# EAGLE library part 734-514 (library con-wago_3.81mm)
Serie 734, Federleiste mit geraden Einlötstiften / Series 734, Female connector with straight solder pins Polzahl / Pole No.: 14 Bemessungsspannung / Rated Voltage: 160 V Nennstrom / Nominal Current: 10 A Lötstiftlänge: / Solder Pin Length: 3.8 mm Farbe / Color: orange / orange Stand: 01.01.2012. Die jeweils aktuellen Daten zu diesem Artikel finden Sie in unserem Produktkatalog, den Sie unter www.wago.com einsehen können. As of: 01/01/2012. Please find the newest data for this article in our product catalogue, which can be viewed under www.wago.com.
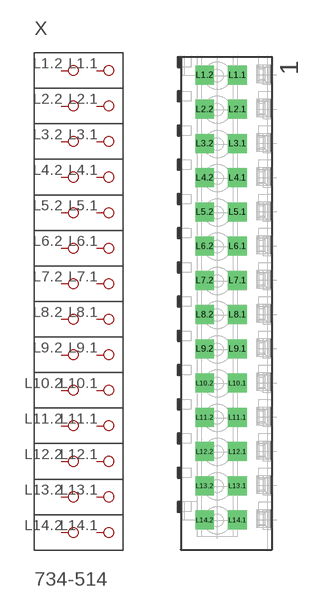
[diagram p45: symbol with the pads of P-734-514; footprint P-734-514]

Designator prefix X

## 734-514  [P-734-514]
L1.1  P1.1
L1.2  P1.2
L2.1  P2.1
L2.2  P2.2
L3.1  P3.1
L3.2  P3.2
L4.1  P4.1
L4.2  P4.2
L5.1  P5.1
L5.2  P5.2
L6.1  P6.1
L6.2  P6.2
L7.1  P7.1
L7.2  P7.2
L8.1  P8.1
L8.2  P8.2
L9.1  P9.1
L9.2  P9.2
L10.1  P10.1
L10.2  P10.2
L11.1  P11.1
L11.2  P11.2
L12.1  P12.1
L12.2  P12.2
L13.1  P13.1
L13.2  P13.2
L14.1  P14.1
L14.2  P14.2

## Footprint P-734-514 (pad centres in mm)
drill 1.4 square: L1.1 1.115,25.405; L1.2 -2.535,25.405; L2.1 1.115,21.595; L2.2 -2.535,21.595; L3.1 1.115,17.785; L3.2 -2.535,17.785; L4.1 1.115,13.975; L4.2 -2.535,13.975; L5.1 1.115,10.165; L5.2 -2.535,10.165; L6.1 1.115,6.355; L6.2 -2.535,6.355; L7.1 1.115,2.545; L7.2 -2.535,2.545; L8.1 1.115,-1.265; L8.2 -2.535,-1.265; L9.1 1.115,-5.075; L9.2 -2.535,-5.075; L10.1 1.115,-8.885; L10.2 -2.535,-8.885; L11.1 1.115,-12.695; L11.2 -2.535,-12.695; L12.1 1.115,-16.505; L12.2 -2.535,-16.505; L13.1 1.115,-20.315; L13.2 -2.535,-20.315; L14.1 1.115,-24.125; L14.2 -2.535,-24.125